# EAGLE library part ECMF02-4CMX8 (library ECMF02-4CMX8)
Common Mode Filter & ESD Prot. USB uQFN8 STMicroelectronics ECMF02 Series, Signal Filter uQFN SMD, Flat Contact Termination, 2.6 x 1.3 x 0.6mm Source: Datasheet <http://www.st.com/content/ccc/resource/technical/document/datasheet/group3/1c/93/cf/72/85/cf/4d/d6/DM00039389/files/DM00039389.pdf/jcr:content/translations/en.DM00039389.pdf>
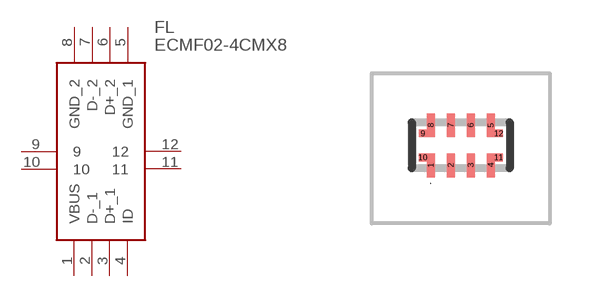
[diagram p0: symbol with the pads of ECMF024CMX8; footprint ECMF024CMX8]

Designator prefix FL

## ECMF02-4CMX8 (Description: Common Mode Filter & ESD Prot. USB uQFN8 STMicroelectronics ECMF02 Series, Signal Filter uQFN SMD, Flat Contact Termination, 2.6 x 1.3 x 0.6mm; Height: mm; Manufacturer_Name: STMicroelectronics; Manufacturer_Part_Number: ECMF02-4CMX8; Mouser_Part_Number: 511-ECMF02-4CMX8; Mouser_Price-Stock: https://www.mouser.co.uk/ProductDetail/STMicroelectronics/ECMF02-4CMX8?qs=xYt8xtm2zhmK7GoDlDZR3A%3D%3D)  [ECMF024CMX8]
1  VBUS
2  D-_1
3  D+_1
4  ID
5  GND_1
6  D+_2
7  D-_2
8  GND_2
9  9
10  10
11  11
12  12

## Footprint ECMF024CMX8 (pad centres in mm)
Micro QFN-8L
smd 0.2 x 0.6: 1 -0.75,-0.5; 2 -0.25,-0.5; 3 0.25,-0.5; 4 0.75,-0.5; 5 0.75,0.5; 6 0.25,0.5; 7 -0.25,0.5; 8 -0.75,0.5
smd 0.2 x 0.2: 9 -0.95,0.3; 10 -0.95,-0.3; 11 0.95,-0.3; 12 0.95,0.3